# Altium footprint library PCB11.PcbLib: 20 footprints (part 2 of 2)
Each footprint in its own frame and in the unit in brackets; x right, y up, seen from the top. Pads: shape width x height; smd on the part's side, far side on the other; paste and mask are expansions set on the pad; w line width, h text height; cw(c..) or ccw(c..) is an arc to the next point about the centre after c.
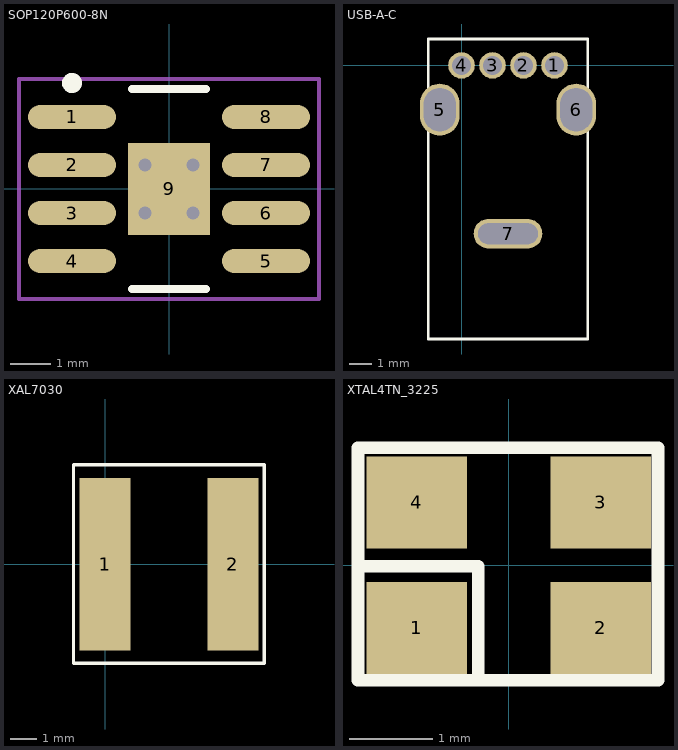
[diagram p1: the footprints below, top view; thin cyan lines are the x and y axes]

## SOP120P600-8N [mm]
height 2.65
pads (9):
  oval 2.2x0.6 smd: 1(-2.425,1.8) 2(-2.425,0.6) 3(-2.425,-0.6) 4(-2.425,-1.8) 5(2.425,-1.8) 6(2.425,-0.6) 7(2.425,0.6) 8(2.425,1.8)
  rect 2.05x2.3 smd: 9(0,0)
via -0.6,0.6 diameter 0.66 hole 0.33
via 0.6,0.6 diameter 0.66 hole 0.33
via -0.6,-0.6 diameter 0.66 hole 0.33
via 0.6,-0.6 diameter 0.66 hole 0.33
Top Overlay:
  circle w0.25: c-2.425,2.65 r0.125
  lines w0.2: -0.925,-2.5 0.925,-2.5 ; -0.925,2.5 0.925,2.5
Mechanical 15:
  lines w0.1: -0.5,0 0.5,0 ; 0,-0.5 0,0.5 ; -3.75,-2.75 -3.75,2.75 3.75,2.75 3.75,-2.75 -3.75,-2.75

## USB-A-C [mm]
height 2.65
pads (7):
  round 1.2 hole 0.85: 1(4.2,0) 2(2.8,0) 3(1.4,0) 4(0,0)
  oval 1.8x2.35 hole 1.45 slot 1.95 at 90 deg: 5(-0.98,-2) 6(5.18,-2)
  oval 3.1x1.35 hole 0.95 slot 2.7 at 0 deg: 7(2.1,-7.6)
Top Overlay:
  lines w0.127: -1.499,-12.356 5.701,-12.356 5.701,1.194 -1.499,1.194 -1.499,-12.356

## XAL7030 [mm]
height 2.65
pads (2):
  rect 1.92x6.5 smd: 1(0,0) 2(4.82,0)
Top Overlay:
  lines w0.127: -1.194,-3.741 6.006,-3.741 6.006,3.759 -1.194,3.759 -1.194,-3.741

## XTAL4TN_3225 [mm]
height 1.4
pads (4):
  rect 1.2x1.1 smd: 1(-1.1,-0.75) 2(1.1,-0.75) 3(1.1,0.75) 4(-1.1,0.75)
Top Overlay:
  lines w0.15: -1.749,-0.012 -0.363,-0.012 ; -0.363,-1.333 -0.363,-0.022 ; -1.8,-1.376 1.786,-1.376 1.786,1.4 -1.8,1.4 -1.8,-1.376